# Altium footprint library Res_Yageo_RT1206BRD07100RL_eec_IPC_A.PcbLib: 1 footprints
Each footprint in its own frame and in the unit in brackets; x right, y up, seen from the top. Pads: shape width x height; smd on the part's side, far side on the other; paste and mask are expansions set on the pad; w line width, h text height; cw(c..) or ccw(c..) is an arc to the next point about the centre after c.
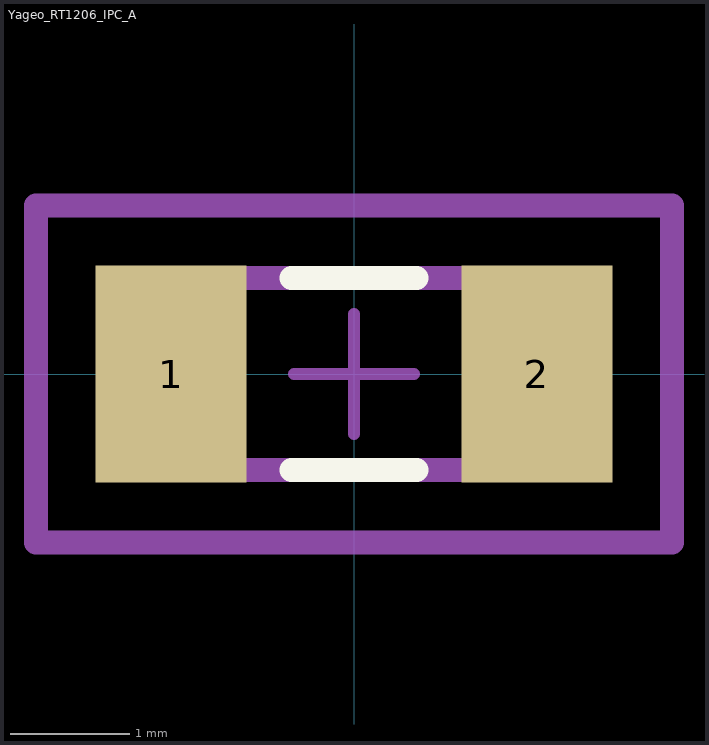
[diagram p0: the footprint, top view; thin cyan lines are the x and y axes]

## Yageo_RT1206_IPC_A [mm]
pads (2):
  rect 1.258x1.812 smd paste+0 mask+0: 1(-1.527,0) 2(1.527,0)
Top Overlay:
  lines w0.2: -0.523,-0.8 0.523,-0.8 ; -0.523,0.8 0.523,0.8
Mechanical 10:
  lines w0.2: -2.656,-1.406 2.656,-1.406 2.656,1.406 -2.656,1.406 -2.656,-1.406
  text ".Designator" at 0,0 h1
Mechanical 12:
  lines w0.2: -1.55,-0.8 1.55,-0.8 1.55,0.8 -1.55,0.8 -1.55,-0.8
Mechanical 15:
  lines w0.1: -0.5,0 0.5,0 ; 0,-0.5 0,0.5
  lines w0.2: -2.656,-1.406 2.656,-1.406 2.656,1.406 -2.656,1.406 -2.656,-1.406
3D body "Res_Yageo_RT1206BRD07100RL_eec.STEP": height 0.25, standoff 0, extent -2.656,-1.406 2.656,1.406